# Altium footprint library Protel 99SE BANKS PCB.PCBLIB: 278 footprints (part 8 of 18)
Each footprint in its own frame and in the unit in brackets; x right, y up, seen from the top. Pads: shape width x height; smd on the part's side, far side on the other; paste and mask are expansions set on the pad; w line width, h text height; cw(c..) or ccw(c..) is an arc to the next point about the centre after c.
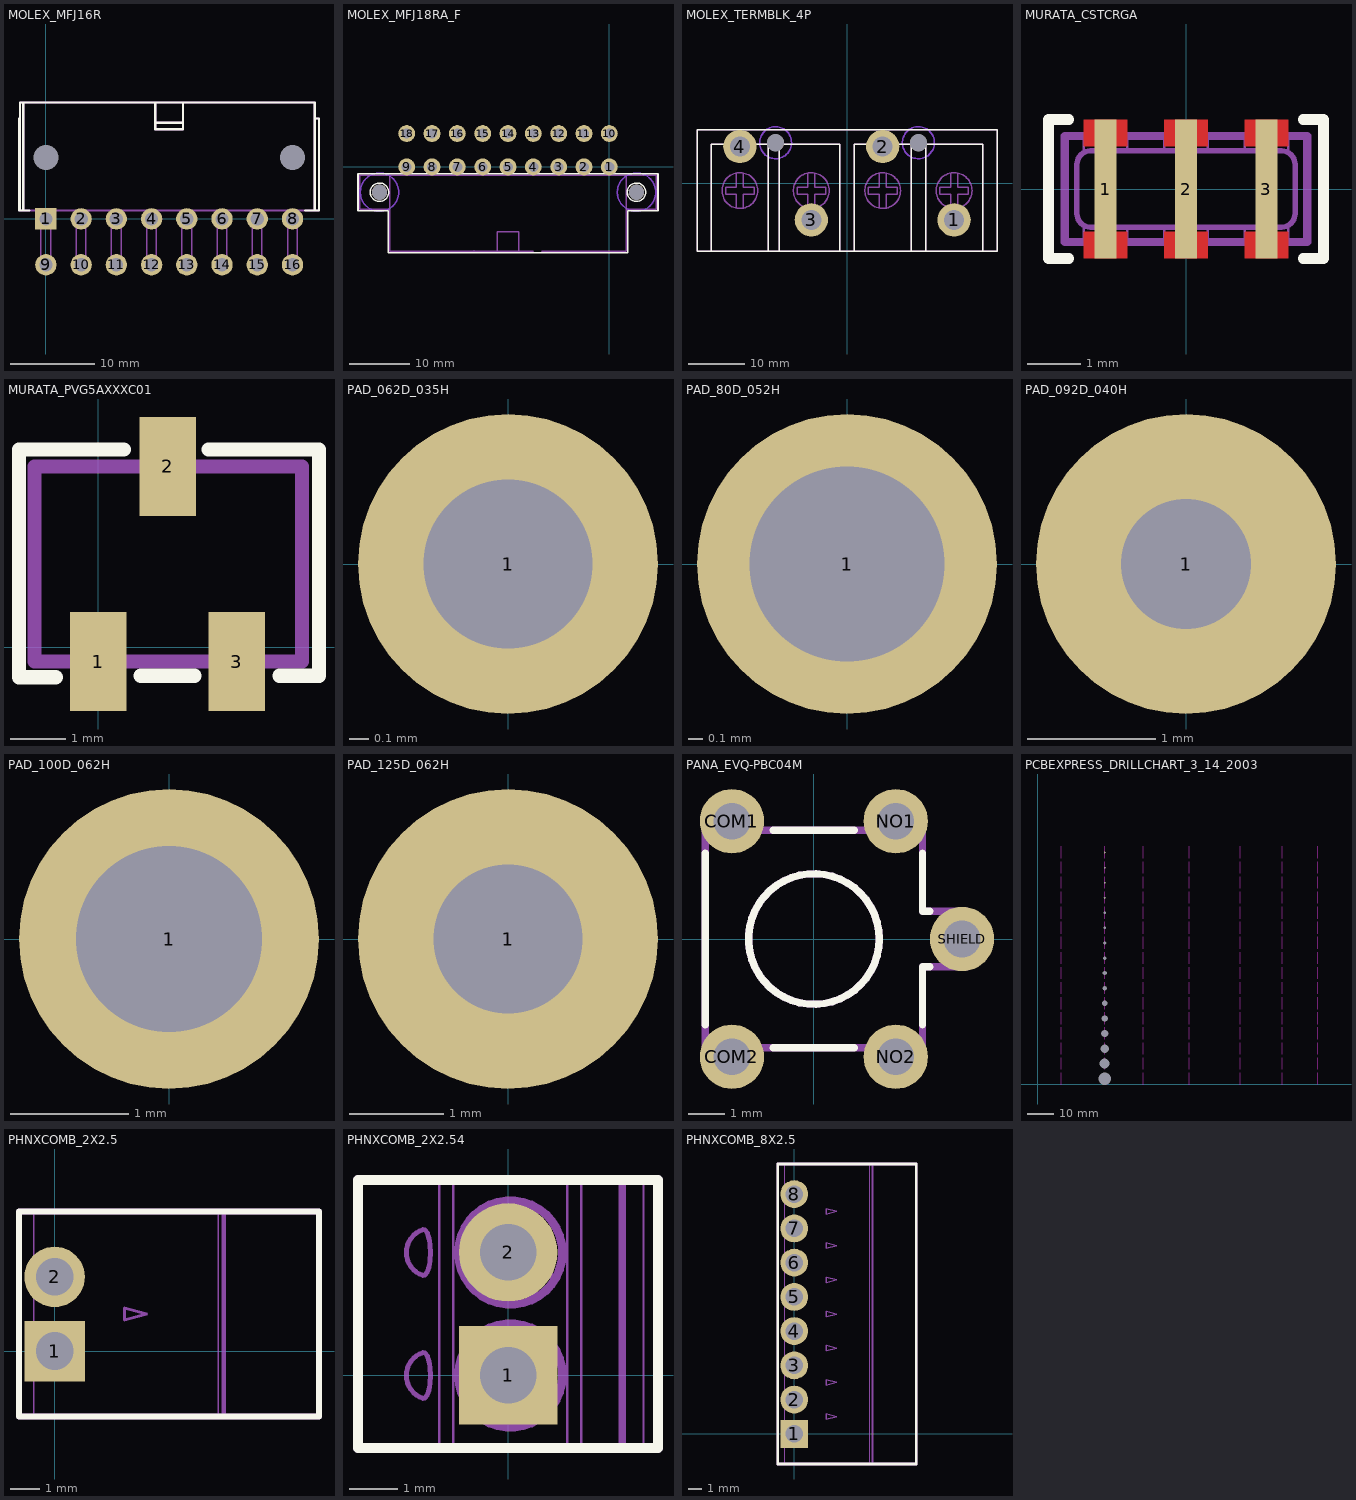
[diagram p7: the footprints below, top view; thin cyan lines are the x and y axes]

## MOLEX_MFJ16R [mil]
pads (18):
  rect 100x100 hole 62: 1(0,0)
  round 100 hole 62: 2(165,0) 3(330,0) 4(495,0) 5(660,0) 6(825,0) 7(990,0) 8(1155,0) 9(0,-215) 10(165,-215) 11(330,-215) 12(495,-215) 13(660,-215) 14(825,-215) 15(990,-215) 16(1155,-215)
  round 30 hole 118 unplated: ""(0,287) ""(1155,287)
TopOverlay:
  lines w10: -121,40 -121,545 1259,545 1259,40 ; -121,470 -126,470 -126,40 -76,40 ; -106,40 -106,545 ; 512,450 642,450 ; 512,545 512,420 642,420 642,545 ; 1214,40 1279,40 1279,470 1259,470
Mechanical3:
  lines w6: -23,40 -23,-237 22,-237 22,40 ; 142,40 142,-237 187,-237 187,40 ; 307,40 307,-237 352,-237 352,40 ; 472,40 472,-237 517,-237 517,40 ; 637,40 637,-237 682,-237 682,40 ; 802,40 802,-237 847,-237 847,40 ; 967,40 967,-237 1012,-237 1012,40 ; 1132,40 1132,-237 1177,-237 1177,40
  lines w10: -121,40 -121,545 1259,545 1259,40 ; -121,470 -126,470 -126,40 1279,40 1279,470 1259,470 ; -106,40 -106,545 ; 512,450 642,450 ; 512,545 512,420 642,420 642,545

## MOLEX_MFJ18RA_F [mil] "Mini-Fit Jr., 18P, R/A, flanged, 39-29-X18X"
height 394
pads (20):
  round 110 hole 65: 1(0,0) 2(-165,0) 3(-330,0) 4(-495,0) 5(-660,0) 6(-825,0) 7(-990,0) 8(-1155,0) 9(-1320,0) 10(0,217) 11(-165,217) 12(-330,217) 13(-495,217) 14(-660,217) 15(-825,217) 16(-990,217) 17(-1155,217) 18(-1320,217)
  round 100 hole 100 unplated: ""(-1497,-165) ""(177,-165)
BottomLayer keep-out:
  circle w10: c-1497,-165 r125
  circle w10: c177,-165 r125
TopOverlay:
  circle w10: c-1497,-165 r60
  circle w10: c177,-165 r60
  lines w10: -1142,-44 -178,-44 ; -945,-560 -375,-560 ; -870,-560 -1440,-560 -1440,-286 -1637,-286 -1637,-44 -673,-44 ; -647,-44 317,-44 317,-286 120,-286 120,-560 -450,-560
Mechanical3:
  lines w10: -1430,-276 -1627,-276 -1627,-54 -1430,-54 ; -1132,-54 -935,-54 -385,-54 ; -935,-550 -495,-550 ; -880,-546 -884,-550 -990,-550 -1430,-550 -1430,-54 ; -742.5,-550 -636.5,-550 ; -730,-550 -730,-421 -590,-421 -590,-550 ; -683,-54 -880,-54 -1430,-54 ; -440,-550 0,-550 106,-550 110,-546 110,-54 ; -440,-54 110,-54 ; 110,-276 307,-276 307,-54 110,-54

## MOLEX_TERMBLK_4P [mil]
pads (6):
  round 233 hole 140: 1(750,-256.5) 2(250,256.5) 3(-250,-256.5) 4(-750,256.5)
  round 120 hole 120 unplated: ""(-500,283.5) ""(500,283.5)
BottomLayer keep-out:
  circle w10: c-500,283.5 r112
  circle w10: c500,283.5 r112
TopOverlay:
  lines w10: -950,-476.5 -950,273.5 -550,273.5 -550,-476.5 ; -475,-476.5 -475,273.5 -50,273.5 -50,-476.5 ; 50,-476.5 50,273.5 450,273.5 450,-476.5 ; 550,-476.5 550,273.5 950,273.5 950,-476.5 ; -1050,-476.5 1050,-476.5 1050,373.5 -1050,373.5 -1050,-476.5
Mechanical3:
  circle w10: c750,-51.5 r125
  circle w10: c250,-51.5 r125
  circle w10: c-250,-51.5 r125
  circle w10: c-750,-51.5 r125
  lines w10: -950,-476.5 -950,273.5 -550,273.5 -550,-476.5 -475,-476.5 -475,273.5 -50,273.5 -50,-476.5 50,-476.5 50,273.5 450,273.5 450,-476.5 550,-476.5 550,273.5 950,273.5 950,-476.5 ; -775,-176.5 -775,-76.5 -850,-76.5 -850,-26.5 -775,-26.5 -775,73.5 ; -725,-176.5 -725,-76.5 -650,-76.5 -650,-26.5 -725,-26.5 -725,73.5 ; -275,-176.5 -275,-76.5 -350,-76.5 -350,-26.5 -275,-26.5 -275,73.5 ; -225,-176.5 -225,-76.5 -150,-76.5 -150,-26.5 -225,-26.5 -225,73.5 ; 225,-176.5 225,-76.5 150,-76.5 150,-26.5 225,-26.5 225,73.5 ; 275,-176.5 275,-76.5 350,-76.5 350,-26.5 275,-26.5 275,73.5 ; 725,-176.5 725,-76.5 650,-76.5 650,-26.5 725,-26.5 725,73.5 ; 775,-176.5 775,-76.5 850,-76.5 850,-26.5 775,-26.5 775,73.5 ; -1050,-476.5 -1050,373.5 0,373.5 1050,373.5 1050,-476.5 -1050,-476.5

## MURATA_CSTCRGA [mil]
pads (3):
  rect 16x102 smd: 1(-59.05,0) 2(0,0) 3(59.05,0)
TopLayer:
  rectangle: -75.06,31 -43.06,51
  region: -43.06,-31 -75.06,-31 -75.06,-51 -43.06,-51
  rectangle: 43.06,31 75.06,51
  region: 75.06,-31 43.06,-31 43.06,-51 75.06,-51
  rectangle: -16,31 16,51
  region: 16,-31 -16,-31 -16,-51 16,-51
TopOverlay:
  lines w8: -86,-51 -101,-51 -101,51 -86,51 ; 86,-51 101,-51 101,51 86,51
TopPaste:
  rectangle: -75.06,31 -43.06,51
  rectangle: -75.06,-51 -43.06,-31
  rectangle: 43.06,31 75.06,51
  rectangle: 43.06,-51 75.06,-31
  rectangle: -16,31 16,51
  rectangle: -16,-51 16,-31
TopSolder:
  rectangle: -78.06,28 -40.06,54
  rectangle: -78.06,-54 -40.06,-28
  rectangle: 40.06,28 78.06,54
  rectangle: 40.06,-54 78.06,-28
  rectangle: -19,28 19,54
  rectangle: -19,-54 19,-28
Mechanical3:
  lines w2: -75.06,-39 -75.06,-28 ; -75.06,28 -75.06,39 ; -43.06,-39 -43.06,-28 ; -43.06,28 -43.06,39 ; -16,-39 -16,-28 ; -16,28 -16,39 ; 16,-39 16,-28 ; 16,28 16,39 ; 43.06,-39 43.06,-28 ; 43.06,28 43.06,39 ; 75.06,-39 75.06,-28 ; 75.06,28 75.06,39
  lines w4: -80,-18 ccw(c-70,-18) -70,-28 70,-28 ccw(c70,-18) 80,-18 80,18 ccw(c70,18) 70,28 -70,28 ccw(c-70,18) -80,18 -80,-18
  lines w6: -89,-39 -89,39 -67.06,39 ccw(c-59.06,39) -51.06,39 -8,39 ccw(c0,39) 8,39 51.06,39 ccw(c59.06,39) 67.06,39 89,39 89,-39 67.06,-39 ccw(c59.06,-39) 51.06,-39 8,-39 ccw(c0,-39) -8,-39 -51.06,-39 ccw(c-59.06,-39) -67.06,-39 -89,-39

## MURATA_PVG5AXXXC01 [mil] "Multi-turn Trimpot, Top Adj."
height 197
pads (3):
  rect 40x70 smd: 1(0,-10) 2(49,128) 3(98,-10)
TopOverlay:
  lines w10: -30,-21 -56,-21 -56,140 18,140 ; 30,-20 68,-20 ; 78,140 156,140 156,138 156,-20 154,-20 128,-20
Mechanical3:
  lines w10: -45,-10 -45,128 144,128 144,-10 -45,-10

## NI_777601-01V [mil]

## PAD_062D_035H [mil]
pads (1):
  round 62 hole 35: 1(0,0)

## PAD_80D_052H [mil]
pads (1):
  round 80 hole 52: 1(0,0)

## PAD_092D_040H [mil]
pads (1):
  round 92 hole 40: 1(0,0)

## PAD_100D_062H [mil]
pads (1):
  round 100 hole 62: 1(0,0)

## PAD_125D_062H [mil]
pads (1):
  round 125 hole 62: 1(0,0)

## PANA_EVQ-PBC04M [mil]
pads (5):
  round 70 hole 40: COM1(-89,128) COM2(-89,-128) NO1(89,128) NO2(89,-128) SHIELD(161,0)
TopOverlay:
  circle w8: c0,0 r71
  lines w8: -118,-93 -118,93 ; -44,-118 44,-118 ; -44,118 44,118 ; 118,-93 118,-30 126,-30 ; 118,93 118,30 126,30
Mechanical3:
  circle w8: c0,0 r71
  lines w4: -103,-118 -103,-133 -75,-133 -75,-118 ; -103,118 -103,133 -75,133 -75,118 ; 75,-118 75,-133 103,-133 103,-118 ; 75,118 75,133 103,133 103,118
  lines w8: -118,-118 -118,118 118,118 118,30 166,30 166,-30 118,-30 118,-118 -118,-118

## PCBEXPRESS_DRILLCHART_3_14_2003 [mil]
pads (16):
  round 24 hole 192: ""(1000,85)
  round 24 hole 150: ""(1000,310)
  round 24 hole 125: ""(1000,535)
  round 24 hole 110: ""(1000,760)
  round 24 hole 93: ""(1000,985)
  round 24 hole 79: ""(1000,1210)
  round 24 hole 67: ""(1000,1435)
  round 24 hole 61: ""(1000,1660)
  round 24 hole 52: ""(1000,1885)
  round 24 hole 46: ""(1000,2110)
  round 24 hole 40: ""(1000,2335)
  round 24 hole 35: ""(1000,2560)
  round 24 hole 29: ""(1000,2785)
  round 24 hole 25: ""(1000,3010)
  round 24 hole 20: ""(1000,3235)
  round 24 hole 14: ""(1000,3460)
KeepOutLayer:
  lines w6: 350,0 350,175 ; 350,225 350,400 ; 350,450 350,625 ; 350,675 350,850 ; 350,900 350,1075 ; 350,1125 350,1300 ; 350,1350 350,1525 ; 350,1575 350,1750 ; 350,1800 350,1975 ; 350,2025 350,2200 ; 350,2250 350,2425 ; 350,2475 350,2650 ; 350,2700 350,2875 ; 350,2925 350,3100 ; 350,3150 350,3325 ; 350,3375 350,3550 ; 1000,0 1000,175 ; 1000,225 1000,400 ; 1000,450 1000,625 ; 1000,675 1000,850 ; 1000,900 1000,1075 ; 1000,1125 1000,1300 ; 1000,1350 1000,1525 ; 1000,1575 1000,1750 ; 1000,1800 1000,1975 ; 1000,2025 1000,2200 ; 1000,2250 1000,2425 ; 1000,2475 1000,2650 ; 1000,2700 1000,2875 ; 1000,2925 1000,3100 ; 1000,3150 1000,3325 ; 1000,3375 1000,3550 ; 1575,0 1575,175 ; 1575,225 1575,400 ; 1575,450 1575,625 ; 1575,675 1575,850 ; 1575,900 1575,1075 ; 1575,1125 1575,1300 ; 1575,1350 1575,1525 ; 1575,1575 1575,1750 ; 1575,1800 1575,1975 ; 1575,2025 1575,2200 ; 1575,2250 1575,2425 ; 1575,2475 1575,2650 ; 1575,2700 1575,2875 ; 1575,2925 1575,3100 ; 1575,3150 1575,3325 ; 1575,3375 1575,3550 ; 2263,0 2263,175 ; 2263,225 2263,400 ; 2263,450 2263,625 ; 2263,675 2263,850 ; 2263,900 2263,1075 ; 2263,1125 2263,1300 ; 2263,1350 2263,1525 ; 2263,1575 2263,1750 ; 2263,1800 2263,1975 ; 2263,2025 2263,2200 ; 2263,2250 2263,2425 ; 2263,2475 2263,2650 ; 2263,2700 2263,2875 ; 2263,2925 2263,3100 ; 2263,3150 2263,3325 ; 2263,3375 2263,3550 ; 3025,0 3025,175 ; 3025,225 3025,400 ; 3025,450 3025,625 ; 3025,675 3025,850 ; 3025,900 3025,1075 ; 3025,1125 3025,1300 ; 3025,1350 3025,1525 ; 3025,1575 3025,1750 ; 3025,1800 3025,1975 ; 3025,2025 3025,2200 ; 3025,2250 3025,2425 ; 3025,2475 3025,2650 ; 3025,2700 3025,2875 ; 3025,2925 3025,3100 ; 3025,3150 3025,3325 ; 3025,3375 3025,3550 ; 3650,0 3650,175 ; 3650,225 3650,400 ; 3650,450 3650,625 ; 3650,675 3650,850 ; 3650,900 3650,1075 ; 3650,1125 3650,1300 ; 3650,1350 3650,1525 ; 3650,1575 3650,1750 ; 3650,1800 3650,1975 ; 3650,2025 3650,2200 ; 3650,2250 3650,2425 ; 3650,2475 3650,2650 ; 3650,2700 3650,2875 ; 3650,2925 3650,3100 ; 3650,3150 3650,3325 ; 3650,3375 3650,3550 ; 4175,0 4175,175 ; 4175,225 4175,400 ; 4175,450 4175,625 ; 4175,675 4175,850 ; 4175,900 4175,1075 ; 4175,1125 4175,1300 ; 4175,1350 4175,1525 ; 4175,1575 4175,1750 ; 4175,1800 4175,1975 ; 4175,2025 4175,2200 ; 4175,2250 4175,2425 ; 4175,2475 4175,2650 ; 4175,2700 4175,2875 ; 4175,2925 4175,3100 ; 4175,3150 4175,3325 ; 4175,3375 4175,3550
DrillDrawing:
  drawing of 1295 lines, arcs and shapes, not listed
  text "PLATED" at 2080,50 h75
  text "PLATED" at 2080,275 h75
  text "-" at 1540,50 h75
  text ".192" at 240,50 h75
  text "+/- .004" at 2770,50 h75
  text "-" at 3620,50 h75
  text "-" at 1540,275 h75
  text ".150" at 240,275 h75
  text "+/- .004" at 2770,275 h75
  text "T06" at 3565,275 h75
  text "-" at 1540,725 h75
  text ".110" at 240,725 h75
  text "+/- .004" at 2770,725 h75
  text "T07" at 3565,725 h75
  text "-" at 1540,950 h75
  text ".093" at 240,950 h75
  text "+/- .004" at 2770,950 h75
  text "-" at 3620,950 h75
  text "PLATED" at 2080,950 h75
  text "PLATED" at 2080,2075 h75
  text "-" at 3620,2075 h75
  text "+/- .004" at 2770,2075 h75
  text ".046" at 240,2075 h75
  text "-" at 1540,2075 h75
  text "PLATED" at 2080,2750 h75
  text "T02" at 3565,2750 h75
  text "+/- .004" at 2770,2750 h75
  text ".029" at 240,2750 h75
  text "-" at 1540,2750 h75
  text "TOLERANCE" at 2730,3650 h75
  text "PLATED" at 2080,3425 h75
  text "-" at 3620,3425 h75
  text "PLUGGED" at 2805,3425 h75
  text "PLATING" at 2065,3650 h75
  text "SYMBOL" at 800,3650 h75
  text "DIAMETER" at 120,3650 h75
  text "TOOL#" at 3495,3650 h75
  text "QTY" at 4080,3650 h75
  text "**  ALL DIMENSIONS AND TOLERANCES ARE IN INCHES (IN)  **" at 575,3875 h75
  text ".014" at 240,3425 h75
  text "REF LTR" at 1375,3650 h75
  text "-" at 1540,3425 h75
  text "-" at 1540,2525 h75
  text ".035" at 240,2525 h75
  text "+/- .004" at 2770,2525 h75
  text "PLATED" at 2080,2525 h75
  text "T03" at 3565,2525 h75
  text "491" at 4095,3200 h75
  text "PLATED" at 2080,3200 h75
  text "T01" at 3565,3200 h75
  text ".020" at 240,3200 h75
  text "-" at 1540,3200 h75
  text "-" at 1540,500 h75
  text ".125" at 240,500 h75
  text "+/- .004" at 2770,500 h75
  text "T08" at 3565,500 h75
  text "PLATED" at 2080,1625 h75
  text "-" at 3620,1625 h75
  text "+/- .004" at 2770,1625 h75
  text ".061" at 240,1625 h75
  text "-" at 1540,1625 h75
  text "-" at 1540,1175 h75
  text ".079" at 240,1175 h75
  text "+/- .004" at 2770,1175 h75
  text "-" at 3620,1175 h75
  text "PLATED" at 2080,1175 h75
  text "+/- .004" at 2770,3200 h75
  text "PLATED" at 2080,2975 h75
  text "-" at 3620,2975 h75
  text "+/- .004" at 2770,2975 h75
  text ".025" at 240,2975 h75
  text "-" at 1540,2975 h75
  text "-" at 1540,2300 h75
  text ".040" at 240,2300 h75
  text "+/- .004" at 2770,2300 h75
  text "PLATED" at 2080,2300 h75
  text "T04" at 3565,2300 h75
  text "PLATED" at 2080,1850 h75
  text "T05" at 3565,1850 h75
  text "+/- .004" at 2770,1850 h75
  text ".052" at 240,1850 h75
  text "-" at 1540,1850 h75
  text "-" at 1540,1400 h75
  text ".067" at 240,1400 h75
  text "+/- .004" at 2770,1400 h75
  text "-" at 3620,1400 h75
  text "PLATED" at 2080,1400 h75
  text "-" at 4145,3425 h75
  text "-" at 4145,2975 h75
  text "135" at 4095,2525 h75
  text "26" at 4120,2750 h75
  text "44" at 4120,2300 h75
  text "7" at 4145,1850 h75
  text "-" at 4145,2075 h75
  text "-" at 4145,1625 h75
  text "-" at 4145,1175 h75
  text "-" at 4145,1400 h75
  text "-" at 4145,950 h75
  text "4" at 4145,725 h75
  text "10" at 4125,275 h75
  text "8" at 4145,500 h75
  text "-" at 4145,50 h75
  text "PLATED" at 2080,725 h75
  text "PLATED" at 2080,500 h75

## PHNXCOMB_2X2.5 [mil]
pads (2):
  rect 80x80 hole 50: 1(0,0)
  round 80 hole 50: 2(0,98.43)
TopOverlay:
  lines w8: -47.21,-86.64 350.43,-86.64 350.43,185.01 -47.21,185.01 -47.21,-86.64
Mechanical3:
  lines w2: -27.52,-86.64 -27.52,185.01 ; 216.57,-86.64 216.57,185.01
  lines w4: 92.55,41.27 122.08,49.19 92.55,57.1 92.55,41.27
  lines w6: 224.44,-86.64 224.44,185.01
  lines w8: -47.21,-86.64 350.43,-86.64 350.43,185.01 -47.21,185.01 -47.21,-86.64

## PHNXCOMB_2X2.54 [mil]
pads (2):
  rect 80x80 hole 46: 1(0,0)
  round 80 hole 46: 2(0,100)
TopOverlay:
  lines w8: -122.17,-59.2 121.93,-59.2 121.93,158.91 -122.17,158.91 -122.17,-59.2
Mechanical3:
  circle w5: c1.85,99.86 r43.31
  circle w5: c1.85,-0.14 r43.31
  lines w2: -55.92,-59.2 -55.92,158.91 ; -44.69,-59.2 -44.69,158.91 ; 47.9,-59.2 47.9,158.91 ; 59.31,-59.2 59.31,158.91 ; 110.12,-59.2 110.12,158.91
  lines w4: -82.8,-0.14 cw(c-63.11,-0.14) -69.51,18.47 -67.57,18.08 -65.78,15.63 -64.34,11.4 -63.42,5.87 -63.11,-0.14 -63.44,-6.34 -64.38,-11.84 -65.83,-16.02 -67.63,-18.41 -69.51,-18.76 cw(c-63.11,-0.14) -82.8,-0.14 ; -82.8,99.86 cw(c-63.11,99.86) -69.51,118.47 -67.57,118.08 -65.78,115.63 -64.34,111.4 -63.42,105.87 -63.11,99.86 -63.44,93.66 -64.38,88.16 -65.83,83.98 -67.63,81.59 -69.51,81.24 cw(c-63.11,99.86) -82.8,99.86
  lines w5: -33.5,21.29 cw(c1.85,-0.14) -19.58,35.21 ; -33.5,21.29 ccw(c1.85,-0.14) 23.28,-35.49 ; -33.5,21.29 23.28,-35.49 ; -33.5,121.29 cw(c1.85,99.86) -19.58,135.21 ; -33.5,121.29 ccw(c1.85,99.86) 23.28,64.51 ; -33.5,121.29 23.28,64.51 ; -19.58,35.21 cw(c1.85,-0.14) 37.2,-21.57 ; -19.58,35.21 37.2,-21.57 ; -19.58,135.21 cw(c1.85,99.86) 37.2,78.43 ; -19.58,135.21 37.2,78.43 ; 23.28,-35.49 ccw(c1.85,-0.14) 37.2,-21.57 ; 23.28,64.51 ccw(c1.85,99.86) 37.2,78.43
  lines w6: 92.83,-59.2 92.83,158.91
  lines w8: -122.17,-59.2 121.93,-59.2 121.93,158.91 -122.17,158.91 -122.17,-59.2

## PHNXCOMB_8X2.5 [mil]
pads (8):
  rect 80x80 hole 50: 1(0,0)
  round 80 hole 50: 2(0,98.43) 3(0,196.85) 4(0,295.28) 5(0,393.7) 6(0,492.13) 7(0,590.55) 8(0,688.98)
TopOverlay:
  lines w8: -47.24,-86.61 -47.24,775.59 350.39,775.59 350.39,-86.61 -47.24,-86.61
Mechanical3:
  lines w2: -27.56,-86.61 -27.56,775.59 ; 216.53,-86.61 216.53,775.59
  lines w4: 92.52,41.3 92.52,57.12 122.05,49.21 92.52,41.3 ; 92.52,139.73 92.52,155.55 122.05,147.64 92.52,139.73 ; 92.52,238.15 92.52,253.97 122.05,246.06 92.52,238.15 ; 92.52,336.58 92.52,352.4 122.05,344.49 92.52,336.58 ; 92.52,435 92.52,450.83 122.05,442.91 92.52,435 ; 92.52,533.43 92.52,549.25 122.05,541.34 92.52,533.43 ; 92.52,631.85 92.52,647.68 122.05,639.76 92.52,631.85
  lines w6: 224.41,-86.61 224.41,775.59
  lines w8: -47.24,-86.61 -47.24,775.59 350.39,775.59 350.39,-86.61 -47.24,-86.61